# Altium footprint library TGIS_Protoboard.PcbLib: 1 footprints
Each footprint in its own frame and in the unit in brackets; x right, y up, seen from the top. Pads: shape width x height; smd on the part's side, far side on the other; paste and mask are expansions set on the pad; w line width, h text height; cw(c..) or ccw(c..) is an arc to the next point about the centre after c.
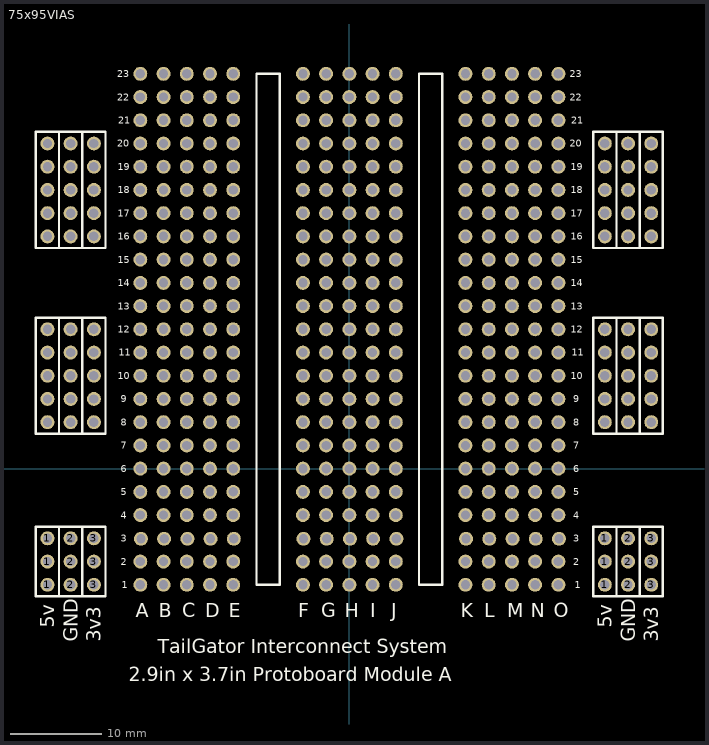
[diagram p0: the footprint, top view; thin cyan lines are the x and y axes]

## 75x95VIAS [mil]
pads (423):
  round 60 hole 40: 1(-1300,-500) 1(-1300,-400) 1(-1300,-300) 1(1100,-500) 1(1100,-400) 1(1100,-300) 2(-1200,-500) 2(-1200,-400) 2(-1200,-300) 2(1200,-500) 2(1200,-400) 2(1200,-300) 3(-1100,-500) 3(-1100,-400) 3(-1100,-300) 3(1300,-500) 3(1300,-400) 3(1300,-300) G1R1(-900,-500) G1R1(-800,-500) G1R1(-700,-500) G1R1(-600,-500) G1R1(-500,-500) G1R2(-900,-400) G1R2(-800,-400) G1R2(-700,-400) G1R2(-600,-400) G1R2(-500,-400) G1R3(-897.5,-301.93) G1R3(-797.5,-301.93) G1R3(-697.5,-301.93) G1R3(-597.5,-301.93) G1R3(-497.5,-301.93) G1R4(-900,-200) G1R4(-800,-200) G1R4(-700,-200) G1R4(-600,-200) G1R4(-500,-200) G1R5(-900,-100) G1R5(-800,-100) G1R5(-700,-100) G1R5(-600,-100) G1R5(-500,-100) G1R6(-900,0) G1R6(-800,0) G1R6(-700,0) G1R6(-600,0) G1R6(-500,0) G1R7(-900,100) G1R7(-800,100) G1R7(-700,100) G1R7(-600,100) G1R7(-500,100) G1R8(-900,200) G1R8(-800,200) G1R8(-700,200) G1R8(-600,200) G1R8(-500,200) G1R9(-900,300) G1R9(-800,300) G1R9(-700,300) G1R9(-600,300) G1R9(-500,300) G1R10(-900,400) G1R10(-800,400) G1R10(-700,400) G1R10(-600,400) G1R10(-500,400) G1R11(-900,500) G1R11(-800,500) G1R11(-700,500) G1R11(-600,500) G1R11(-500,500) G1R12(-900,600) G1R12(-800,600) G1R12(-700,600) G1R12(-600,600) G1R12(-500,600) G1R13(-900,700) G1R13(-800,700) G1R13(-700,700) G1R13(-600,700) G1R13(-500,700) G1R14(-900,800) G1R14(-800,800) G1R14(-700,800) G1R14(-600,800) G1R14(-500,800) G1R15(-900,900) G1R15(-800,900) G1R15(-700,900) G1R15(-600,900) G1R15(-500,900) G1R16(-900,1000) G1R16(-800,1000) G1R16(-700,1000) G1R16(-600,1000) G1R16(-500,1000) G1R17(-900,1100) G1R17(-800,1100) G1R17(-700,1100) G1R17(-600,1100) G1R17(-500,1100) G1R18(-900,1200) G1R18(-800,1200) G1R18(-700,1200) G1R18(-600,1200) G1R18(-500,1200) G1R19(-900,1300) G1R19(-800,1300) G1R19(-700,1300) G1R19(-600,1300) G1R19(-500,1300) G1R20(-900,1400) G1R20(-800,1400) G1R20(-700,1400) G1R20(-600,1400) G1R20(-500,1400) G1R21(-900,1500) G1R21(-800,1500) G1R21(-700,1500) G1R21(-600,1500) G1R21(-500,1500) G1R22(-900,1600) G1R22(-800,1600) G1R22(-700,1600) G1R22(-600,1600) G1R22(-500,1600) G1R23(-900,1700) G1R23(-800,1700) G1R23(-700,1700) G1R23(-600,1700) G1R23(-500,1700) G2R1(-200,-500) G2R1(-100,-500) G2R1(0,-500) G2R1(100,-500) G2R1(200,-500) G2R2(-200,-400) G2R2(-100,-400) G2R2(0,-400) G2R2(100,-400) G2R2(200,-400) G2R3(-197.5,-301.93) G2R3(-97.5,-301.93) G2R3(2.5,-301.93) G2R3(102.5,-301.93) G2R3(202.5,-301.93) G2R4(-200,-200) G2R4(-100,-200) G2R4(0,-200) G2R4(100,-200) G2R4(200,-200) G2R5(-200,-100) G2R5(-100,-100) G2R5(0,-100) G2R5(100,-100) G2R5(200,-100) G2R6(-200,0) G2R6(-100,0) G2R6(0,0) G2R6(100,0) G2R6(200,0) G2R7(-200,100) G2R7(-100,100) G2R7(0,100) G2R7(100,100) G2R7(200,100) G2R8(-200,200) G2R8(-100,200) G2R8(0,200) G2R8(100,200) G2R8(200,200) G2R9(-200,300) G2R9(-100,300) G2R9(0,300) G2R9(100,300) G2R9(200,300) G2R10(-200,400) G2R10(-100,400) G2R10(0,400) G2R10(100,400) G2R10(200,400) G2R11(-200,500) G2R11(-100,500) G2R11(0,500) G2R11(100,500) G2R11(200,500) G2R12(-200,600) G2R12(-100,600) G2R12(0,600) G2R12(100,600) G2R12(200,600) G2R13(-200,700) G2R13(-100,700) G2R13(0,700) G2R13(100,700) G2R13(200,700) G2R14(-200,800) G2R14(-100,800) G2R14(0,800) G2R14(100,800) G2R14(200,800) G2R15(-200,900) G2R15(-100,900) G2R15(0,900) G2R15(100,900) G2R15(200,900) G2R16(-200,1000) G2R16(-100,1000) G2R16(0,1000) G2R16(100,1000) G2R16(200,1000) G2R17(-200,1100) G2R17(-100,1100) G2R17(0,1100) G2R17(100,1100) G2R17(200,1100) G2R18(-200,1200) G2R18(-100,1200) G2R18(0,1200) G2R18(100,1200) G2R18(200,1200) G2R19(-200,1300) G2R19(-100,1300) G2R19(0,1300) G2R19(100,1300) G2R19(200,1300) G2R20(-200,1400) G2R20(-100,1400) G2R20(0,1400) G2R20(100,1400) G2R20(200,1400) G2R21(-200,1500) G2R21(-100,1500) G2R21(0,1500) G2R21(100,1500) G2R21(200,1500) G2R22(-200,1600) G2R22(-100,1600) G2R22(0,1600) G2R22(100,1600) G2R22(200,1600) G2R23(-200,1700) G2R23(-100,1700) G2R23(0,1700) G2R23(100,1700) G2R23(200,1700) G3R1(500,-500) G3R1(600,-500) G3R1(700,-500) G3R1(800,-500) G3R1(900,-500) G3R2(500,-400) G3R2(600,-400) G3R2(700,-400) G3R2(800,-400) G3R2(900,-400) G3R3(502.5,-301.93) G3R3(602.5,-301.93) G3R3(702.5,-301.93) G3R3(802.5,-301.93) G3R3(902.5,-301.93) G3R4(500,-200) G3R4(600,-200) G3R4(700,-200) G3R4(800,-200) G3R4(900,-200) G3R5(500,-100) G3R5(600,-100) G3R5(700,-100) G3R5(800,-100) G3R5(900,-100) G3R6(500,0) G3R6(600,0) G3R6(700,0) G3R6(800,0) G3R6(900,0) G3R7(500,100) G3R7(600,100) G3R7(700,100) G3R7(800,100) G3R7(900,100) G3R8(500,200) G3R8(600,200) G3R8(700,200) G3R8(800,200) G3R8(900,200) G3R9(500,300) G3R9(600,300) G3R9(700,300) G3R9(800,300) G3R9(900,300) G3R10(500,400) G3R10(600,400) G3R10(700,400) G3R10(800,400) G3R10(900,400) G3R11(500,500) G3R11(600,500) G3R11(700,500) G3R11(800,500) G3R11(900,500) G3R12(500,600) G3R12(600,600) G3R12(700,600) G3R12(800,600) G3R12(900,600) G3R13(500,700) G3R13(600,700) G3R13(700,700) G3R13(800,700) G3R13(900,700) G3R14(500,800) G3R14(600,800) G3R14(700,800) G3R14(800,800) G3R14(900,800) G3R15(500,900) G3R15(600,900) G3R15(700,900) G3R15(800,900) G3R15(900,900) G3R16(500,1000) G3R16(600,1000) G3R16(700,1000) G3R16(800,1000) G3R16(900,1000) G3R17(500,1100) G3R17(600,1100) G3R17(700,1100) G3R17(800,1100) G3R17(900,1100) G3R18(500,1200) G3R18(600,1200) G3R18(700,1200) G3R18(800,1200) G3R18(900,1200) G3R19(500,1300) G3R19(600,1300) G3R19(700,1300) G3R19(800,1300) G3R19(900,1300) G3R20(500,1400) G3R20(600,1400) G3R20(700,1400) G3R20(800,1400) G3R20(900,1400) G3R21(500,1500) G3R21(600,1500) G3R21(700,1500) G3R21(800,1500) G3R21(900,1500) G3R22(500,1600) G3R22(600,1600) G3R22(700,1600) G3R22(800,1600) G3R22(900,1600) G3R23(500,1700) G3R23(600,1700) G3R23(700,1700) G3R23(800,1700) G3R23(900,1700) P1Ra1(-1300,200) P1Ra1(-1300,300) P1Ra1(-1300,400) P1Ra1(-1300,500) P1Ra1(-1300,600) P1Ra2(-1200,200) P1Ra2(-1200,300) P1Ra2(-1200,400) P1Ra2(-1200,500) P1Ra2(-1200,600) P1Ra3(-1100,200) P1Ra3(-1100,300) P1Ra3(-1100,400) P1Ra3(-1100,500) P1Ra3(-1100,600) P2Ra1(-1300,1000) P2Ra1(-1300,1100) P2Ra1(-1300,1200) P2Ra1(-1300,1300) P2Ra1(-1300,1400) P2Ra2(-1200,1000) P2Ra2(-1200,1100) P2Ra2(-1200,1200) P2Ra2(-1200,1300) P2Ra2(-1200,1400) P2Ra3(-1100,1000) P2Ra3(-1100,1100) P2Ra3(-1100,1200) P2Ra3(-1100,1300) P2Ra3(-1100,1400) P3Ra1(1100,200) P3Ra1(1100,300) P3Ra1(1100,400) P3Ra1(1100,500) P3Ra1(1100,600) P3Ra2(1200,200) P3Ra2(1200,300) P3Ra2(1200,400) P3Ra2(1200,500) P3Ra2(1200,600) P3Ra3(1300,200) P3Ra3(1300,300) P3Ra3(1300,400) P3Ra3(1300,500) P3Ra3(1300,600) P4Ra1(1100,1000) P4Ra1(1100,1100) P4Ra1(1100,1200) P4Ra1(1100,1300) P4Ra1(1100,1400) P4Ra2(1200,1000) P4Ra2(1200,1100) P4Ra2(1200,1200) P4Ra2(1200,1300) P4Ra2(1200,1400) P4Ra3(1300,1000) P4Ra3(1300,1100) P4Ra3(1300,1200) P4Ra3(1300,1300) P4Ra3(1300,1400)
Top Overlay:
  lines w10: -1250,-550 -1350,-550 -1350,-250 -1250,-250 ; -1250,-550 -1250,-250 ; -1250,-550 -1150,-550 ; -1250,-550 -1250,-250 ; -1250,-250 -1150,-250 ; -1250,150 -1150,150 ; -1250,150 -1250,650 ; -1250,150 -1350,150 -1350,650 -1250,650 ; -1250,150 -1250,650 ; -1250,650 -1150,650 ; -1250,950 -1150,950 ; -1250,950 -1250,1450 ; -1250,950 -1350,950 -1350,1450 -1250,1450 ; -1250,950 -1250,1450 ; -1250,1450 -1150,1450 ; -1150,-550 -1050,-550 -1050,-250 -1150,-250 ; -1150,-550 -1150,-250 ; -1150,-550 -1150,-250 ; -1150,150 -1050,150 -1050,650 -1150,650 ; -1150,150 -1150,650 ; -1150,150 -1150,650 ; -1150,950 -1150,1450 ; -1150,950 -1050,950 -1050,1450 -1150,1450 ; -1150,950 -1150,1450 ; 1150,-550 1250,-550 ; 1150,-550 1150,-250 ; 1150,-550 1050,-550 1050,-250 1150,-250 ; 1150,-550 1150,-250 ; 1150,-250 1250,-250 ; 1150,150 1250,150 ; 1150,150 1150,650 ; 1150,150 1050,150 1050,650 1150,650 ; 1150,150 1150,650 ; 1150,650 1250,650 ; 1150,950 1050,950 1050,1450 1150,1450 ; 1150,950 1150,1450 ; 1150,950 1250,950 ; 1150,950 1150,1450 ; 1150,1450 1250,1450 ; 1250,-550 1250,-250 ; 1250,-550 1350,-550 1350,-250 1250,-250 ; 1250,-550 1250,-250 ; 1250,150 1350,150 1350,650 1250,650 ; 1250,150 1250,650 ; 1250,150 1250,650 ; 1250,950 1250,1450 ; 1250,950 1350,950 1350,1450 1250,1450 ; 1250,950 1250,1450 ; -400,-500 -300,-500 -300,1700 -400,1700 -400,-500 ; 300,-500 400,-500 400,1700 300,1700 300,-500
  text "1" at -980,-515 h30
  text "10" at -997.49,385 h30
  text "5" at -985,-115 h30
  text "7" at -985,85 h30
  text "6" at -985,-15 h30
  text "4" at -985,-215 h30
  text "3" at -985,-315 h30
  text "2" at -985,-415 h30
  text "8" at -985,185 h30
  text "9" at -985,285 h30
  text "11" at -992.49,485 h30
  text "12" at -997.49,585 h30
  text "13" at -997.49,685 h30
  text "14" at -997.49,785 h30
  text "15" at -997.49,885 h30
  text "16" at -997.49,985 h30
  text "17" at -997.49,1085 h30
  text "18" at -997.49,1185 h30
  text "19" at -997.49,1285 h30
  text "20" at -999.99,1385 h30
  text "23" at -999.99,1685 h30
  text "21" at -994.99,1485 h30
  text "22" at -999.99,1585 h30
  text "23" at 950.01,1685 h30
  text "22" at 950.01,1585 h30
  text "21" at 955.01,1485 h30
  text "20" at 950.01,1385 h30
  text "19" at 952.51,1285 h30
  text "18" at 952.51,1185 h30
  text "17" at 952.51,1085 h30
  text "16" at 952.51,985 h30
  text "15" at 952.51,885 h30
  text "14" at 952.51,785 h30
  text "13" at 952.51,685 h30
  text "12" at 952.51,585 h30
  text "11" at 957.51,485 h30
  text "10" at 952.51,385 h30
  text "9" at 965,285 h30
  text "8" at 965,185 h30
  text "7" at 965,85 h30
  text "6" at 965,-15 h30
  text "5" at 965,-115 h30
  text "4" at 965,-215 h30
  text "3" at 965,-315 h30
  text "1" at 970,-515 h30
  text "2" at 965,-415 h30
  text "2.9in x 3.7in Protoboard Module A" at -949.69,-915 h60
  text "TailGator Interconnect System" at -824.73,-795.01 h60
  text "3v3" at 1329.99,-744.95 h60
  text "GND" at 1230,-744.94 h60
  text "5v" at 1130,-684.96 h60
  text "5v" at -1270,-684.97 h60
  text "3v3" at -1070,-744.95 h60
  text "GND" at -1170,-744.95 h60
  text "E" at -519.99,-640 h60
  text "D" at -619.99,-640 h60
  text "C" at -719.99,-640 h60
  text "A" at -919.99,-640 h60
  text "O" at 880.01,-640 h60
  text "N" at 780.01,-640 h60
  text "M" at 680.01,-640 h60
  text "L" at 580.01,-640 h60
  text "K" at 480.01,-640 h60
  text "I" at 90,-640 h60
  text "H" at -19.99,-640 h60
  text "G" at -119.99,-640 h60
  text "F" at -219.99,-640 h60
  text "J" at 180.01,-640 h60
  text "B" at -819.99,-640 h60
Bottom Overlay:
  lines w10: -1250,-550 -1150,-550 ; -1250,-550 -1250,-250 ; -1250,-550 -1350,-550 -1350,-250 -1250,-250 ; -1250,-550 -1250,-250 ; -1250,-250 -1150,-250 ; -1250,150 -1350,150 -1350,650 -1250,650 ; -1250,150 -1250,650 ; -1250,150 -1150,150 ; -1250,150 -1250,650 ; -1250,650 -1150,650 ; -1250,950 -1350,950 -1350,1450 -1250,1450 ; -1250,950 -1250,1450 ; -1250,950 -1150,950 ; -1250,950 -1250,1450 ; -1250,1450 -1150,1450 ; -1150,-550 -1150,-250 ; -1150,-550 -1050,-550 -1050,-250 -1150,-250 ; -1150,-550 -1150,-250 ; -1150,150 -1050,150 -1050,650 -1150,650 ; -1150,150 -1150,650 ; -1150,150 -1150,650 ; -1150,950 -1050,950 -1050,1450 -1150,1450 ; -1150,950 -1150,1450 ; -1150,950 -1150,1450 ; 1150,-550 1050,-550 1050,-250 1150,-250 ; 1150,-550 1150,-250 ; 1150,-550 1250,-550 ; 1150,-550 1150,-250 ; 1150,-250 1250,-250 ; 1150,150 1250,150 ; 1150,150 1150,650 ; 1150,150 1050,150 1050,650 1150,650 ; 1150,150 1150,650 ; 1150,650 1250,650 ; 1150,950 1250,950 ; 1150,950 1150,1450 ; 1150,950 1050,950 1050,1450 1150,1450 ; 1150,950 1150,1450 ; 1150,1450 1250,1450 ; 1250,-550 1350,-550 1350,-250 1250,-250 ; 1250,-550 1250,-250 ; 1250,-550 1250,-250 ; 1250,150 1250,650 ; 1250,150 1350,150 1350,650 1250,650 ; 1250,150 1250,650 ; 1250,950 1250,1450 ; 1250,950 1350,950 1350,1450 1250,1450 ; 1250,950 1250,1450 ; -400,-500 -300,-500 -300,1700 -400,1700 -400,-500 ; 300,-500 400,-500 400,1700 300,1700 300,-500
  text "1" at 980,-515 h30
  text "10" at 997.49,385 h30
  text "5" at 985,-115 h30
  text "7" at 985,85 h30
  text "6" at 985,-15 h30
  text "4" at 985,-215 h30
  text "3" at 985,-315 h30
  text "2" at 985,-415 h30
  text "8" at 985,185 h30
  text "9" at 985,285 h30
  text "11" at 992.49,485 h30
  text "12" at 997.49,585 h30
  text "13" at 997.49,685 h30
  text "14" at 997.49,785 h30
  text "15" at 997.49,885 h30
  text "16" at 997.49,985 h30
  text "17" at 997.49,1085 h30
  text "18" at 997.49,1185 h30
  text "19" at 997.49,1285 h30
  text "20" at 999.99,1385 h30
  text "23" at 999.99,1685 h30
  text "21" at 994.99,1485 h30
  text "22" at 999.99,1585 h30
  text "23" at -950.01,1685 h30
  text "22" at -950.01,1585 h30
  text "21" at -955.01,1485 h30
  text "20" at -950.01,1385 h30
  text "19" at -952.51,1285 h30
  text "18" at -952.51,1185 h30
  text "17" at -952.51,1085 h30
  text "16" at -952.51,985 h30
  text "15" at -952.51,885 h30
  text "14" at -952.51,785 h30
  text "13" at -952.51,685 h30
  text "12" at -952.51,585 h30
  text "11" at -957.51,485 h30
  text "10" at -952.51,385 h30
  text "9" at -965,285 h30
  text "8" at -965,185 h30
  text "7" at -965,85 h30
  text "6" at -965,-15 h30
  text "5" at -965,-115 h30
  text "4" at -965,-215 h30
  text "3" at -965,-315 h30
  text "1" at -970,-515 h30
  text "2" at -965,-415 h30
  text "2.9in x 3.7in Protoboard Module A" at 949.69,-915 h60
  text "TailGator Interconnect System" at 824.73,-795.01 h60
  text "5v" at -1329.99,-684.97 h60
  text "GND" at -1230,-744.94 h60
  text "3v3" at -1130,-744.94 h60
  text "3v3" at 1270,-744.95 h60
  text "5v" at 1070,-684.97 h60
  text "GND" at 1170,-744.95 h60
  text "K" at 519.99,-640 h60
  text "L" at 619.99,-640 h60
  text "M" at 719.99,-640 h60
  text "O" at 919.99,-640 h60
  text "A" at -880.01,-640 h60
  text "B" at -780.01,-640 h60
  text "C" at -680.01,-640 h60
  text "D" at -580.01,-640 h60
  text "E" at -480.01,-640 h60
  text "G" at -80.01,-640 h60
  text "H" at 19.99,-640 h60
  text "I" at 110,-640 h60
  text "J" at 219.99,-640 h60
  text "F" at -180.01,-640 h60
  text "N" at 819.99,-640 h60